# Altium schematic symbol library MECH_NO_BOM.SchLib: 1 symbol
Pins are listed as number, name and electrical type; pins without a type are passive.

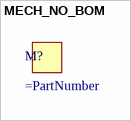
[diagram p0: symbol MECH_NO_BOM]

## MECH_NO_BOM
designator M?  (no BOM)